# Altium footprint library 3.00-电源-电池接口.PcbLib: 13 footprints
Each footprint in its own frame and in the unit in brackets; x right, y up, seen from the top. Pads: shape width x height; smd on the part's side, far side on the other; paste and mask are expansions set on the pad; w line width, h text height; cw(c..) or ccw(c..) is an arc to the next point about the centre after c.
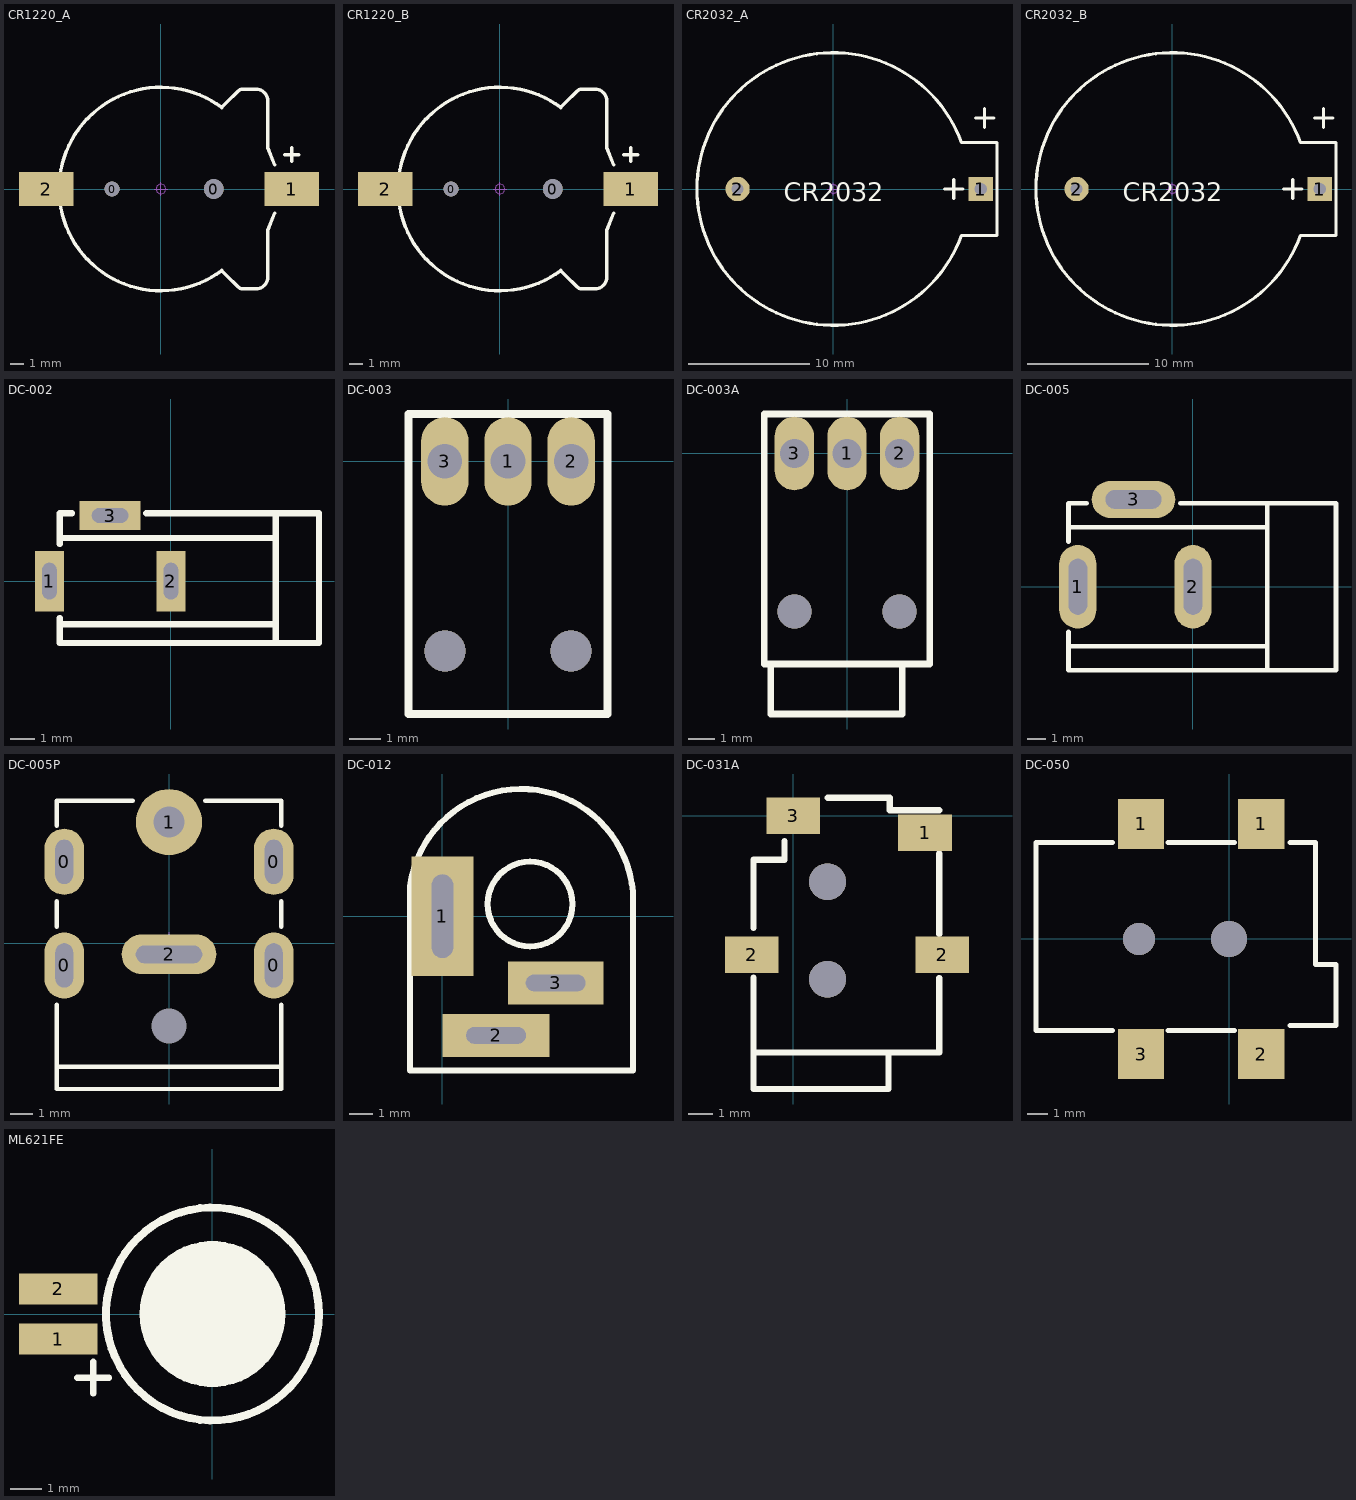
[diagram p0: the footprints below, top view; thin cyan lines are the x and y axes]

## CR1220_A [mm] "纽扣电池座                         淘宝ID:黄晶宝石"
pads (4):
  round 1.1 hole 1.1: 0(-3.6,0)
  round 1.45 hole 1.45: 0(3.9,0)
  rect 4x2.5 smd: 1(9.652,0) 2(-8.458,0)
Top Overlay:
  lines w0.254: 4.5,-6 cw(c0,0) 4.5,6 ; 4.572,-6.096 4.826,-6.35 5.662,-7.186 ccw(c6.096,-6.753) 6.096,-7.366 7.007,-7.366 ccw(c7.007,-6.499) 7.874,-6.499 7.874,-3.048 8.382,-1.778 ; 4.572,6.096 4.826,6.35 5.662,7.186 cw(c6.096,6.753) 6.096,7.366 7.007,7.366 cw(c7.007,6.499) 7.874,6.499 7.874,3.048 8.382,1.778 ; 9.144,2.54 10.16,2.54 ; 9.652,2.032 9.652,3.048
Mechanical 15:
  circle w0.05: c0,0 r0.35
  lines w0.05: -0.5,0 0.5,0 ; 0,-0.5 0,0.5
3D body: height 4.05, standoff -0.85, extent -9.416,-7.45 10.34,7.45

## CR1220_B [mm] "纽扣电池座                              淘宝ID:黄晶宝石"
pads (4):
  round 1.1 hole 1.1: 0(-3.6,0)
  round 1.45 hole 1.45: 0(3.9,0)
  rect 4x2.5 smd: 1(9.652,0) 2(-8.458,0)
Top Overlay:
  lines w0.254: 4.5,-6 cw(c0,0) 4.5,6 ; 4.572,-6.096 4.826,-6.35 5.662,-7.186 ccw(c6.096,-6.753) 6.096,-7.366 7.007,-7.366 ccw(c7.007,-6.499) 7.874,-6.499 7.874,-3.048 8.382,-1.778 ; 4.572,6.096 4.826,6.35 5.662,7.186 cw(c6.096,6.753) 6.096,7.366 7.007,7.366 cw(c7.007,6.499) 7.874,6.499 7.874,3.048 8.382,1.778 ; 9.144,2.54 10.16,2.54 ; 9.652,2.032 9.652,3.048
Mechanical 15:
  circle w0.05: c0,0 r0.35
  lines w0.05: -0.5,0 0.5,0 ; 0,-0.5 0,0.5
3D body: height 4.05, standoff -0.85, extent -9.416,-7.45 10.341,7.45

## CR2032_A [mm] "纽扣电池座                                  淘宝ID:黄晶宝石"
pads (2):
  rect 2x2 hole 1: 1(12.126,0)
  round 2 hole 1: 2(-7.874,0)
Top Overlay:
  lines w0.254: 9.144,0 10.668,0 ; 9.906,-0.762 9.906,0.762 ; 11.684,5.842 13.208,5.842 ; 12.446,5.08 12.446,6.604 ; 10.541,-3.81 cw(c0,0) 10.541,3.81 13.462,3.81 13.462,-3.81 10.541,-3.81
  text "CR2032" at -4.064,-1.016 h1.52
Mechanical 15:
  circle w0.05: c0,0 r0.35
  lines w0.05: -0.5,0 0.5,0 ; 0,-0.5 0,0.5
3D body: height 8.75, standoff -3.05, extent -11.1,-11.098 13.3,11.099

## CR2032_B [mm] "纽扣电池座                               淘宝ID:黄晶宝石"
pads (2):
  rect 2x2 hole 1: 1(12.126,0)
  round 2 hole 1: 2(-7.874,0)
Top Overlay:
  lines w0.254: 9.144,0 10.668,0 ; 9.906,-0.762 9.906,0.762 ; 11.684,5.842 13.208,5.842 ; 12.446,5.08 12.446,6.604 ; 10.541,-3.81 cw(c0,0) 10.541,3.81 13.462,3.81 13.462,-3.81 10.541,-3.81
  text "CR2032" at -4.064,-1.016 h1.52
Mechanical 15:
  circle w0.05: c0,0 r0.35
  lines w0.05: -0.5,0 0.5,0 ; 0,-0.5 0,0.5
3D body: height 8.75, standoff -3.05, extent -11.1,-11.099 13.3,11.099

## DC-002 [mm] "3.5*1.1mm"
pads (3):
  rect 1.2x2.5 hole 0.6 slot 1.5 at 90 deg: 1(-5,0) 2(0,0)
  rect 2.5x1.2 hole 0.6 slot 1.5 at 0 deg: 3(-2.5,2.7)
Top Overlay:
  lines w0.254: -4.572,-1.778 4.318,-1.778 ; -4.572,-1.524 -4.572,-2.54 6.096,-2.54 6.096,2.794 -1.016,2.794 ; -4.572,1.524 -4.572,2.794 -4.064,2.794 ; -4.572,1.778 4.318,1.778 ; 4.318,-2.54 4.318,-1.778 ; 4.318,2.794 4.318,1.778 ; 4.318,-1.778 4.318,1.778
3D body: height 7.43, standoff -3.27, extent -5.3,-2.5 6,2.85

## DC-003 [mm] "3.5*1.1mm"
pads (3):
  oval 1.5x2.8 hole 1.1: 1(0,0) 2(2,0) 3(-2,0)
via 2,-6 diameter 1.3 hole 1.3
via -2,-6 diameter 1.3 hole 1.3
Top Overlay:
  lines w0.254: -3.15,-8 3.15,-8 3.15,1.5 -3.15,1.5 -3.15,-8
3D body: height 5, standoff -3.2, extent -3.15,-8 3.15,1

## DC-003A [mm] "3.5*1.1mm"
pads (3):
  oval 1.5x2.8 hole 1.1: 1(0,0) 2(2,0) 3(-2,0)
via -2,-6 diameter 1.3 hole 1.3
via 2,-6 diameter 1.3 hole 1.3
Top Overlay:
  lines w0.254: -2.896,-8 -2.896,-9.9 2.104,-9.9 2.104,-8 ; -3.15,-8 -3.15,1.5 3.15,1.5 3.15,-8 -3.15,-8
3D body: height 5, standoff -3.2, extent -3.15,-9.9 3.15,1

## DC-005 [mm] "DC母座5.5mm"
height 12.75
pads (3):
  oval 2x4.5 hole 1 slot 3 at 90 deg: 1(-6.2,0) 2(0,0)
  oval 4.5x2 hole 1 slot 3 at 0 deg: 3(-3.2,4.7)
Top Overlay:
  lines w0.254: -6.7,-3.2 3.92,-3.2 ; -6.7,-2.424 -6.7,-4.5 7.7,-4.5 7.7,4.5 -0.685,4.5 ; -6.7,2.425 -6.7,4.5 -5.715,4.5 ; -6.7,3.2 3.92,3.2 ; 4,-4.5 4,4.5
3D body: height 11.25, standoff -3.75, extent -6.55,-4.5 7.5,4.8

## DC-005P [mm] "13mm*10mm*10mm(长*宽*高)               淘宝ID:黄晶宝石"
pads (7):
  oval 1.8x3 hole 0.8 slot 2 at 90 deg unplated: 0(-4.75,-1) 0(-4.75,3.7) 0(4.75,-1) 0(4.75,3.7)
  round 3 hole 1.4 unplated: 1(0,5.5)
  oval 4.3x1.8 hole 0.8 slot 3 at 0 deg unplated: 2(0,-0.5)
  round 0 hole 1.6 unplated: 4(0,-3.75)
Top Overlay:
  lines w0.203: -5.08,-5.588 5.08,-5.588 ; -5.08,-2.794 -5.08,-6.604 5.08,-6.604 5.08,-2.794 ; -5.08,0.762 -5.08,1.905 ; -5.08,5.334 -5.08,6.477 -1.651,6.477 ; 1.651,6.477 5.08,6.477 5.08,6.35 5.08,5.334 ; 5.08,0.762 5.08,1.905
Mechanical 15:
  circle w0.05: c0,0 r0.35
  lines w0.05: -0.5,0 0.5,0 ; 0,-0.5 0,0.5
3D body: height 10.15, standoff -2.15, extent -5,-6.5 5,6.3

## DC-012 [mm] "5.5*2.1"
pads (3):
  rect 2.6x5 hole 0.9 slot 3.5 at 90 deg: 1(0,0)
  rect 4.5x1.8 hole 0.7 slot 2.5 at 0 deg: 2(2.25,-5)
  rect 4x1.8 hole 0.7 slot 2.5 at 0 deg: 3(4.75,-2.8)
Top Overlay:
  circle w0.254: c3.676,0.508 r1.778
  lines w0.254: -1.355,-6.477 8.001,-6.477 8.001,0.635 ccw(c3.302,0.635) -1.355,1.264 -1.355,-6.477
3D body: height 13, standoff -5, extent -1.071,-6.516 7.929,4.484

## DC-031A [mm] "3.5*1.3"
pads (4):
  rect 2.2x1.5 smd: 1(5.4,-0.7) 2(-1.7,-5.7) 2(6.1,-5.7) 3(0,0)
via 1.4,-2.7 diameter 1.5 hole 1.5
via 1.4,-6.7 diameter 1.5 hole 1.5
Top Overlay:
  lines w0.254: -1.638,-9.676 -1.614,-9.7 3.9,-9.7 ; -1.638,-6.628 -1.638,-11.2 3.9,-11.2 3.9,-9.7 ; -1.638,-4.596 -1.638,-1.802 -0.368,-1.802 -0.368,-1.04 ; 1.41,0.738 3.95,0.738 3.95,0.23 5.982,0.23 ; 5.982,-6.652 5.982,-9.7 3.9,-9.7 ; 5.982,-4.85 5.982,-1.548
3D body: height 5, standoff -1.4, extent -2.4,-11.2 6.8,0.8

## DC-050 [mm] "5.5*2.1"
pads (4):
  rect 2.3x2.5 smd: 1(-4.4,5.75) 1(1.6,5.75) 2(1.6,-5.75) 3(-4.4,-5.75)
via -4.5,0 diameter 1.6 hole 1.6
via 0,0 diameter 1.8 hole 1.8
Top Overlay:
  lines w0.254: -5.842,-4.572 -9.652,-4.572 -9.652,4.826 -5.842,4.826 ; -3.048,-4.572 0.254,-4.572 ; -3.048,4.826 0.254,4.826 ; 3.048,-4.318 5.334,-4.318 5.334,-1.27 4.318,-1.27 4.318,4.826 3.048,4.826
3D body: height 11, standoff -1.4, extent -9.593,-6.3 5.207,6.3

## ML621FE [mm] "可充电纽扣电池"
pads (2):
  rect 2.5x1 smd: 1(-4.927,-0.8) 2(-4.927,0.8)
Top Overlay:
  circle w2.2: c0,0 r1.024
  circle w0.254: c0,0 r2.2
  circle w0.254: c0,0 r3.4
  lines w0.203: -4.318,-2.032 -3.302,-2.032 ; -3.81,-2.54 -3.81,-1.524
Mechanical 15:
  circle w0.05: c0,0 r0.35
  lines w0.05: -0.5,0 0.5,0 ; 0,-0.5 0,0.5
3D body: height -0.45, standoff -2.85, extent -5.5,-3.398 3.398,3.398